# EAGLE library part ESP32-S3-WROOM-1-N4 (library ESP32-S3-WROOM-1-N4)
WiFi Modules - 802.11 [Engineering Samples] SMD Module, ESP32-S3, 4 MB SPI Flash, PCB Antenna Source: Datasheet <https://www.espressif.com/sites/default/files/documentation/esp32-s3-wroom-1_wroom-1u_datasheet_en.pdf>
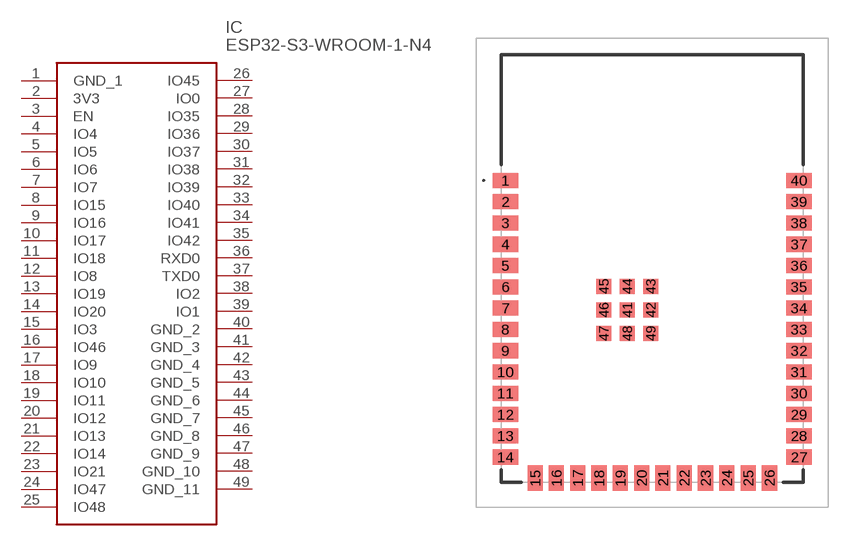
[diagram p0: symbol with the pads of ESP32S3WROOM1N4; footprint ESP32S3WROOM1N4]

Designator prefix IC

## ESP32-S3-WROOM-1-N4 (Description: WiFi Modules - 802.11 [Engineering Samples] SMD Module, ESP32-S3, 4 MB SPI Flash, PCB Antenna; Height: 3.25mm; Manufacturer_Name: Espressif Systems; Manufacturer_Part_Number: ESP32-S3-WROOM-1-N4; Mouser_Part_Number: 356-ESP32-S3WROOM1N4; Mouser_Price-Stock: https://www.mouser.co.uk/ProductDetail/Espressif-Systems/ESP32-S3-WROOM-1-N4?qs=Li%252BoUPsLEnsO%2FkiJOUK0FQ%3D%3D)  [ESP32S3WROOM1N4]
1  GND_1
2  3V3
3  EN
4  IO4
5  IO5
6  IO6
7  IO7
8  IO15
9  IO16
10  IO17
11  IO18
12  IO8
13  IO19
14  IO20
15  IO3
16  IO46
17  IO9
18  IO10
19  IO11
20  IO12
21  IO13
22  IO14
23  IO21
24  IO47
25  IO48
26  IO45
27  IO0
28  IO35
29  IO36
30  IO37
31  IO38
32  IO39
33  IO40
34  IO41
35  IO42
36  RXD0
37  TXD0
38  IO2
39  IO1
40  GND_2
41  GND_3
42  GND_4
43  GND_5
44  GND_6
45  GND_7
46  GND_8
47  GND_9
48  GND_10
49  GND_11

## Footprint ESP32S3WROOM1N4 (pad centres in mm)
ESP32-S3-WROOM-1-N4-4
smd 1.5 x 0.9: 1 -8.75,5.51; 2 -8.75,4.24; 3 -8.75,2.97; 4 -8.75,1.7; 5 -8.75,0.43; 6 -8.75,-0.84; 7 -8.75,-2.11; 8 -8.75,-3.38; 9 -8.75,-4.65; 10 -8.75,-5.92; 11 -8.75,-7.19; 12 -8.75,-8.46; 13 -8.75,-9.73; 14 -8.75,-11; 27 8.75,-11; 28 8.75,-9.73; 29 8.75,-8.46; 30 8.75,-7.19; 31 8.75,-5.92; 32 8.75,-4.65; 33 8.75,-3.38; 34 8.75,-2.11; 35 8.75,-0.84; 36 8.75,0.43; 37 8.75,1.7; 38 8.75,2.97; 39 8.75,4.24; 40 8.75,5.51
smd 0.9 x 1.5: 15 -6.985,-12.25; 16 -5.715,-12.25; 17 -4.445,-12.25; 18 -3.175,-12.25; 19 -1.905,-12.25; 20 -0.635,-12.25; 21 0.635,-12.25; 22 1.905,-12.25; 23 3.175,-12.25; 24 4.445,-12.25; 25 5.715,-12.25; 26 6.985,-12.25
smd 0.9 x 0.9: 41 -1.5,-2.21; 42 -0.1,-2.21; 43 -0.1,-0.81; 44 -1.5,-0.81; 45 -2.9,-0.81; 46 -2.9,-2.21; 47 -2.9,-3.61; 48 -1.5,-3.61; 49 -0.1,-3.61